# EAGLE library part AS-ITM-00219 (library tinycircuits)
FILTER BALUN ATMEL 2.45GHZ
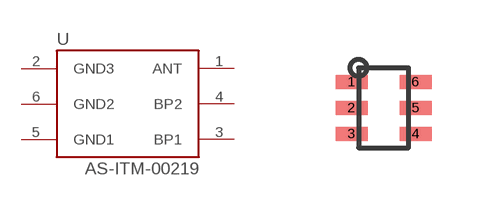
[diagram p93: symbol with the pads of 2450FB15L0001; footprint 2450FB15L0001]

Designator prefix U

## AS-ITM-00219 (PARTNO: AS-ITM-00219; VALUE: 2450BM15A0015E)  [2450FB15L0001]
1  ANT
2  GND3
3  BP1
4  BP2
5  GND1
6  GND2

## Footprint 2450FB15L0001 (pad centres in mm)
smd 0.8 x 0.35: 1 -0.8,0.65; 2 -0.8,0; 3 -0.8,-0.65; 4 0.8,-0.65; 5 0.8,0; 6 0.8,0.65